# EAGLE library part 61901011121 (library Wurth_Connectors_WR-WTB)
WR-WTB 2.54 mm Male Locking Header KIND PROPERTIES: Pitch:2.54 mm Gender:Male MATERIAL PROPERTIES: Insulator Material :PA66 Insulator Flammability Rating:UL94 V-0 Insulator Color:Beige Contact Material:Copper Alloy Contact Plating:Tin Contact Type:Stamped GENERAL INFORMATION Operating Temperature:-40 up to +105 °C Compliance: RoHS Working Voltage:250 V (AC) Withstanding Voltage:1000 V (AC) Contact Resistance:20 mΩ RISO:1000 MΩ CERTIFICATION UL Approval:E323964 PACKAGING PROPERTIES Packaging:Bag <https://katalog.we-online.com/media/images/v2/o33345v209%20Family_WR-WTB_6190xx11121.jpg> Details see: https://katalog.we-online.com/en/em/WTB_2_54_MALE_LOCKING_HEADER_6190XX11121 Updated by Ella Wu 2020-07-08 2020 (C) Würth Elektronik
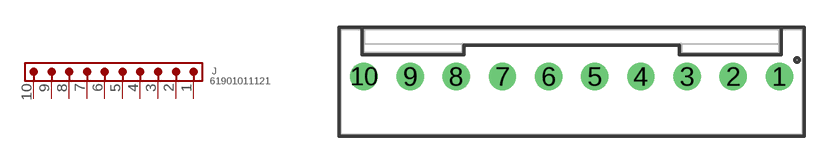
[diagram p55: symbol with the pads of 61901011121; footprint 61901011121]

Designator prefix J

## 61901011121 (CONTACT-RESISTANCE: 20mOhm; DATASHEET-URL: https://www.we-online.com/redexpert/spec/61901011121?ae; GENDER: Male; L: 25.4mm; MOUNT: THT; PACKAGING: Bag; PART-NUMBER: 61901011121; PCB-CABLE-PANEL: PCB; PINS: 10; PITCH: 2.54mm; TYPE: Vertical; VALUE: 61901011121; WORKING-VOLTAGE: 250V(AC))  [61901011121]
1  1  pas
2  2  pas
3  3  pas
4  4  pas
5  5  pas
6  6  pas
7  7  pas
8  8  pas
9  9  pas
10  10  pas

## Footprint 61901011121 (pad centres in mm)
WR-WTB 2.54 mm Male Locking Header,10 Pins
drill 1: 1 11.43,0.3; 2 8.89,0.3; 3 6.35,0.3; 4 3.81,0.3; 5 1.27,0.3; 6 -1.27,0.3; 7 -3.81,0.3; 8 -6.35,0.3; 9 -8.89,0.3; 10 -11.43,0.3